# Altium integrated library Header_2.IntLib: 1 symbol
Pins are listed as number, name and electrical type; pins without a type are passive.

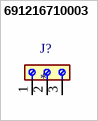
[diagram p0: symbol 691216710003]

## 691216710003
designator J?
5.00 MM TERMINAL BLOCK;; MF: WÃ¼rth Elektronik; MP: 691216710003; SnapEDA_Link: https://www.snapeda.com/parts/691216710003/W%25C3%25BCrth+Elektronik+Midcom/view-part/?ref=snap; Package: None; Value: *; Check_prices: https://www.snapeda.com/parts/691216710003/W%25C3%25BCrth+Elektronik+Midcom/view-part/?ref=eda
footprint 691216710003
pins: 1, 2, 3